# Altium schematic symbol library ERJ-2RKF2490X.SchLib: 1 symbol
Pins are listed as number, name and electrical type; pins without a type are passive.

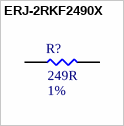
[diagram p0: symbol ERJ-2RKF2490X]

## ERJ-2RKF2490X
designator R?  Resistance: 249R  Tolerance: 1%  (hidden comment: ERJ-2RKF2490X)
Thick Film Resistors 0402 249ohms 1% AEC-Q200; MFR: Panasonic; Power Rating: 1/10W; PN: ERJ-2RKF2490X; Footprint: RES0402; Package: 0402; ComponentLink1Description: Datasheet; ComponentLink1URL: https://www.mouser.ca/datasheet/2/315/AOA0000C304-1149620.pdf; Supplier 1: Digi-Key; Supplier Part Number 1: P249LCT-ND
footprint RES0402 (Generic 0402 PCB Footprint)
pins: 1, 2